# Altium footprint library CON 20X2_Ribbon.PcbLib: 1 footprints
Each footprint in its own frame and in the unit in brackets; x right, y up, seen from the top. Pads: shape width x height; smd on the part's side, far side on the other; paste and mask are expansions set on the pad; w line width, h text height; cw(c..) or ccw(c..) is an arc to the next point about the centre after c.
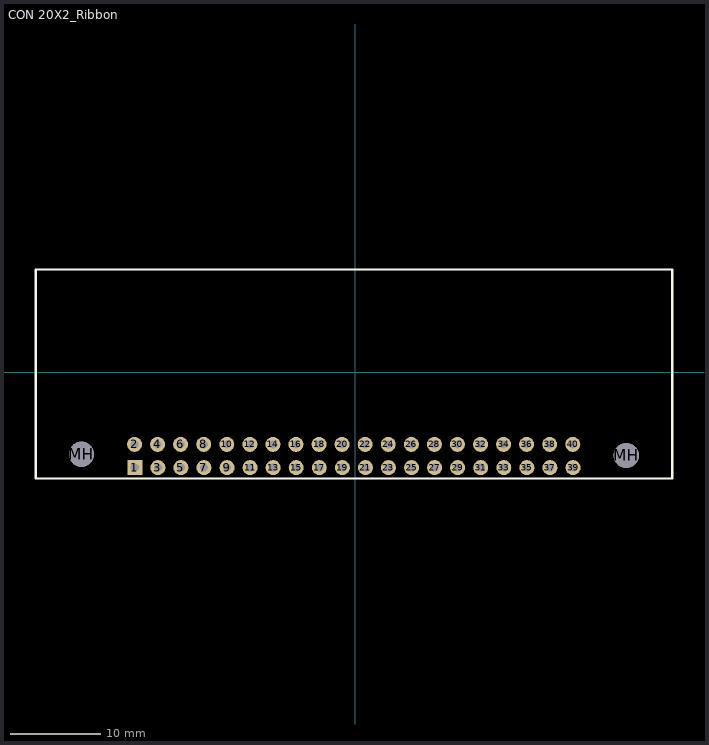
[diagram p0: the footprint, top view; thin cyan lines are the x and y axes]

## CON 20X2_Ribbon [mil] "40 Pin Ribbon Connector"
pads (42):
  rect 65x65 hole 35: 1(-957,-414)
  round 65 hole 35: 2(-958,-313) 3(-857,-414) 4(-858,-313) 5(-757,-414) 6(-758,-313) 7(-657,-414) 8(-658,-313) 9(-557,-414) 10(-558,-313) 11(-457,-414) 12(-458,-313) 13(-357,-414) 14(-358,-313) 15(-257,-414) 16(-258,-313) 17(-157,-414) 18(-158,-313) 19(-57,-414) 20(-58,-313) 21(43,-414) 22(42,-313) 23(143,-414) 24(142,-313) 25(243,-414) 26(242,-313) 27(343,-414) 28(342,-313) 29(443,-414) 30(442,-313) 31(543,-414) 32(542,-313) 33(643,-414) 34(642,-313) 35(743,-414) 36(742,-313) 37(843,-414) 38(842,-313) 39(943,-414) 40(942,-313)
  round 109 hole 109: MH(-1188,-356) MH(1174,-361)
Top Overlay:
  lines w10: -1386,-461 -1386,445 1373,445 1373,-461 -1386,-461
3D body: height 352.32, standoff -112.24, extent -1386.92,-462.98 1372.92,444.11